# Altium schematic symbol library PCA9698DGG.SchLib: 1 symbol
Pins are listed as number, name and electrical type; pins without a type are passive.

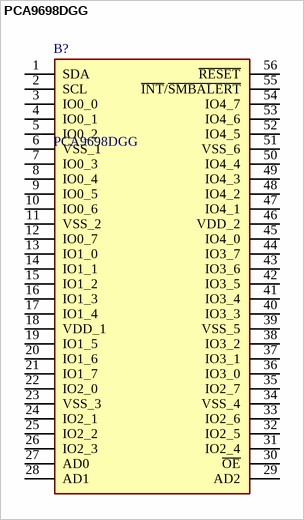
[diagram p0: symbol PCA9698DGG]

## PCA9698DGG
designator B?
Dispositifs d'extension E/S 40 I2C 1 MHz 56-TSSOP, I2C, 2,3V ~ 5,5V, -40C ~ 85C; Manufacturer_Name: NXP; Geometry.Height: 1.2mm; Manufacturer_Part_Number: PCA9698DGG; Mouser Part Number: 771-PCA9698DGG; Mouser Price/Stock: https://www.mouser.co.uk/ProductDetail/NXP-Semiconductors/PCA9698DGG?qs=KBAwV6Cvgt2rmRSY%2F7ErlQ%3D%3D; Arrow Part Number: *; Arrow Price/Stock: *; Datasheet Link: https://www.nxp.com/docs/en/data-sheet/PCA9698.pdf
footprint SOP50P810X120-56N
pins: 1 SDA, 2 SCL, 3 IO0_0, 4 IO0_1, 5 IO0_2, 6 VSS_1, 7 IO0_3, 8 IO0_4, 9 IO0_5, 10 IO0_6, 11 VSS_2, 12 IO0_7, 13 IO1_0, 14 IO1_1, 15 IO1_2, 16 IO1_3, 17 IO1_4, 18 VDD_1, 19 IO1_5, 20 IO1_6, 21 IO1_7, 22 IO2_0, 23 VSS_3, 24 IO2_1, 25 IO2_2, 26 IO2_3, 27 AD0, 28 AD1, 29 AD2, 30 ~{OE}, 31 IO2_4, 32 IO2_5, 33 IO2_6, 34 VSS_4, 35 IO2_7, 36 IO3_0, 37 IO3_1, 38 IO3_2, 39 VSS_5, 40 IO3_3, 41 IO3_4, 42 IO3_5, 43 IO3_6, 44 IO3_7, 45 IO4_0, 46 VDD_2, 47 IO4_1, 48 IO4_2, 49 IO4_3, 50 IO4_4, 51 VSS_6, 52 IO4_5, 53 IO4_6, 54 IO4_7, 55 ~{INT}/~{SMBALERT}, 56 ~{RESET}